# Altium footprint library CAPC5764X279N.PcbLib: 1 footprints
Each footprint in its own frame and in the unit in brackets; x right, y up, seen from the top. Pads: shape width x height; smd on the part's side, far side on the other; paste and mask are expansions set on the pad; w line width, h text height; cw(c..) or ccw(c..) is an arc to the next point about the centre after c.
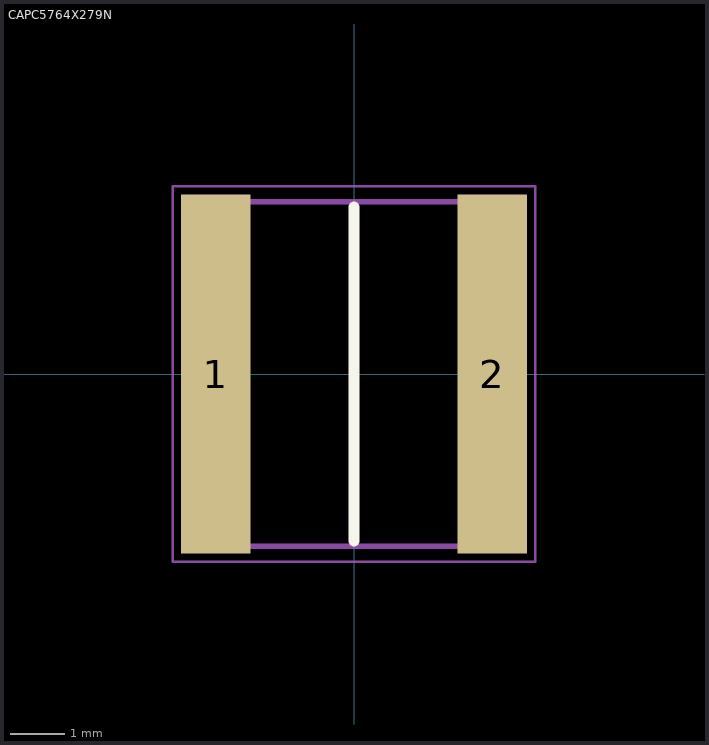
[diagram p0: the footprint, top view; thin cyan lines are the x and y axes]

## CAPC5764X279N [mm]
pads (2):
  rect 1.28x6.62 smd: 1(-2.55,0) 2(2.55,0)
Top Overlay:
  lines w0.2: 0,-3.075 0,3.075
Mechanical 15:
  lines w0.1: -2.86,-3.175 2.86,-3.175 2.86,3.175 -2.86,3.175 -2.86,-3.175
Mechanical 20:
  lines w0.05: -3.34,-3.46 3.34,-3.46 3.34,3.46 -3.34,3.46 -3.34,-3.46